# EAGLE library part S29GL01GTXX (library memory-cypress)
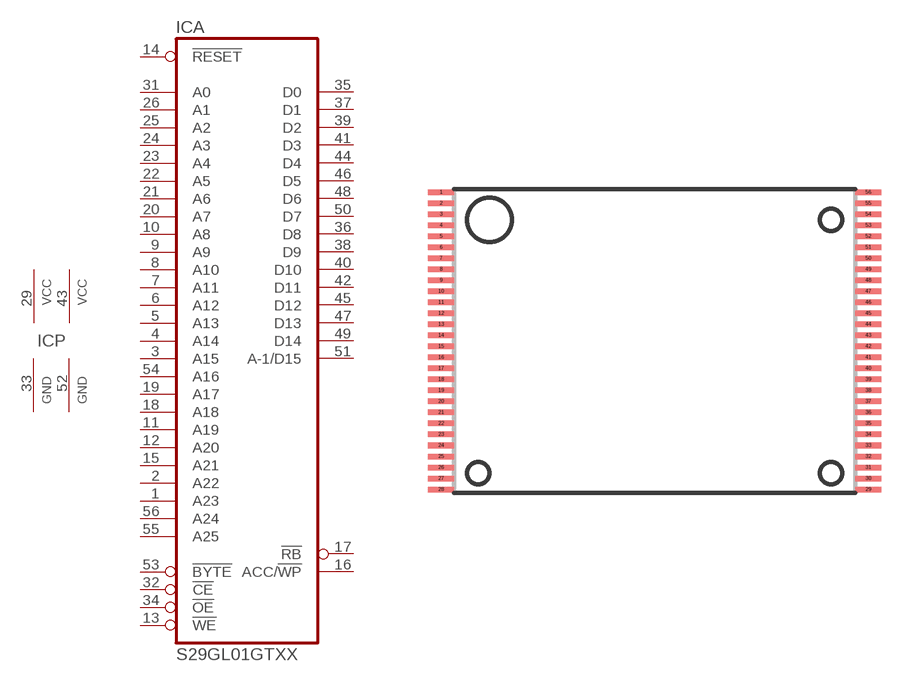
[diagram p6: symbol with the pads of TSOP56; footprint TSOP56]

Designator prefix IC; gates A=128MX16 P=PWR2GND2

## S29GL01GTXXT  [TSOP56]
1  A:A23  in
2  A:A22  in
3  A:A15  in
4  A:A14  in
5  A:A13  in
6  A:A12  in
7  A:A11  in
8  A:A10  in
9  A:A9  in
10  A:A8  in
11  A:A19  in
12  A:A20  in
13  A:!WE  in
14  A:!RESET  in
15  A:A21  in
16  A:ACC/!WP  in
17  A:!RB  in
18  A:A18  in
19  A:A17  in
20  A:A7  in
21  A:A6  in
22  A:A5  in
23  A:A4  in
24  A:A3  in
25  A:A2  in
26  A:A1  in
29  P:VCC  pwr
31  A:A0  in
32  A:!CE  in
33  P:GND  pwr
34  A:!OE  in
35  A:D0
36  A:D8
37  A:D1
38  A:D9
39  A:D2
40  A:D10
41  A:D3
42  A:D11
43  P:VCC  pwr
44  A:D4
45  A:D12
46  A:D5
47  A:D13
48  A:D6
49  A:D14
50  A:D7
51  A:A-1/D15
52  P:GND  pwr
53  A:!BYTE  in
54  A:A16  in
55  A:A25  in
56  A:A24  in

## Footprint TSOP56 (pad centres in mm)
Thin Small Outline Package
smd 1.2 x 0.25: 1 -9.7,6.75; 2 -9.7,6.25; 3 -9.7,5.75; 4 -9.7,5.25; 5 -9.7,4.75; 6 -9.7,4.25; 7 -9.7,3.75; 8 -9.7,3.25; 9 -9.7,2.75; 10 -9.7,2.25; 11 -9.7,1.75; 12 -9.7,1.25; 13 -9.7,0.75; 14 -9.7,0.25; 15 -9.7,-0.25; 16 -9.7,-0.75; 17 -9.7,-1.25; 18 -9.7,-1.75; 19 -9.7,-2.25; 20 -9.7,-2.75; 21 -9.7,-3.25; 22 -9.7,-3.75; 23 -9.7,-4.25; 24 -9.7,-4.75; 25 -9.7,-5.25; 26 -9.7,-5.75; 27 -9.7,-6.25; 28 -9.7,-6.75; 29 9.7,-6.75; 30 9.7,-6.25; 31 9.7,-5.75; 32 9.7,-5.25; 33 9.7,-4.75; 34 9.7,-4.25; 35 9.7,-3.75; 36 9.7,-3.25; 37 9.7,-2.75; 38 9.7,-2.25; 39 9.7,-1.75; 40 9.7,-1.25; 41 9.7,-0.75; 42 9.7,-0.25; 43 9.7,0.25; 44 9.7,0.75; 45 9.7,1.25; 46 9.7,1.75; 47 9.7,2.25; 48 9.7,2.75; 49 9.7,3.25; 50 9.7,3.75; 51 9.7,4.25; 52 9.7,4.75; 53 9.7,5.25; 54 9.7,5.75; 55 9.7,6.25; 56 9.7,6.75